# Altium schematic symbol library NUCLEO-L476RG.SchLib: 1 symbol
Pins are listed as number, name and electrical type; pins without a type are passive.

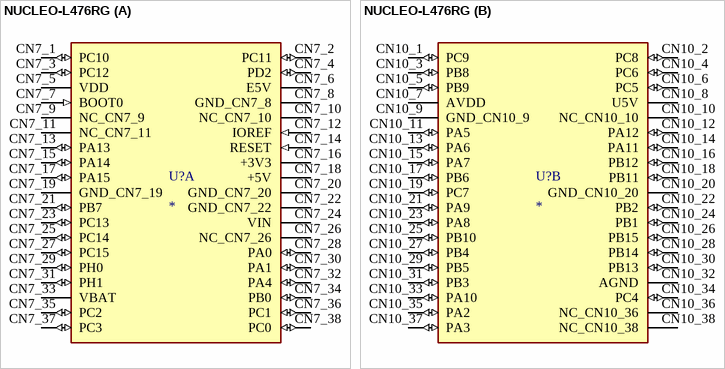
[diagram p0: symbol NUCLEO-L476RG]

## NUCLEO-L476RG
designator U?
MF: {'manufacturer': u'STMicroelectronics'}; MP: NUCLEO-L476RG; Package: None; Price: None; Value: *; Availability: Unavailable
footprint MODULE_NUCLEO-L476RG
part A pins: CN7_1 PC10 (io), CN7_2 PC11 (io), CN7_3 PC12 (io), CN7_4 PD2 (io), CN7_5 VDD (power), CN7_6 E5V (power), CN7_7 BOOT0 (in), CN7_8 GND_CN7_8 (power), CN7_9 NC_CN7_9, CN7_10 NC_CN7_10, CN7_11 NC_CN7_11, CN7_12 IOREF (in), CN7_13 PA13 (io), CN7_14 RESET (in), CN7_15 PA14 (io), CN7_16 +3V3 (power), CN7_17 PA15 (io), CN7_18 +5V (power), CN7_19 GND_CN7_19 (power), CN7_20 GND_CN7_20 (power), CN7_21 PB7 (io), CN7_22 GND_CN7_22 (power), CN7_23 PC13 (io), CN7_24 VIN (power), CN7_25 PC14 (io), CN7_26 NC_CN7_26, CN7_27 PC15 (io), CN7_28 PA0 (io), CN7_29 PH0 (io), CN7_30 PA1 (io), CN7_31 PH1 (io), CN7_32 PA4 (io), CN7_33 VBAT (power), CN7_34 PB0 (io), CN7_35 PC2 (io), CN7_36 PC1 (io), CN7_37 PC3 (io), CN7_38 PC0 (io)
part B pins: CN10_1 PC9 (io), CN10_2 PC8 (io), CN10_3 PB8 (io), CN10_4 PC6 (io), CN10_5 PB9 (io), CN10_6 PC5 (io), CN10_7 AVDD (power), CN10_8 U5V (power), CN10_9 GND_CN10_9 (power), CN10_10 NC_CN10_10, CN10_11 PA5 (io), CN10_12 PA12 (io), CN10_13 PA6 (io), CN10_14 PA11 (io), CN10_15 PA7 (io), CN10_16 PB12 (io), CN10_17 PB6 (io), CN10_18 PB11 (io), CN10_19 PC7 (io), CN10_20 GND_CN10_20 (power), CN10_21 PA9 (io), CN10_22 PB2 (io), CN10_23 PA8 (io), CN10_24 PB1 (io), CN10_25 PB10 (io), CN10_26 PB15 (io), CN10_27 PB4 (io), CN10_28 PB14 (io), CN10_29 PB5 (io), CN10_30 PB13 (io), CN10_31 PB3 (io), CN10_32 AGND (power), CN10_33 PA10 (io), CN10_34 PC4 (io), CN10_35 PA2 (io), CN10_36 NC_CN10_36, CN10_37 PA3 (io), CN10_38 NC_CN10_38